# EAGLE library part XTAG-2 (library Strutz Electronic Industries)
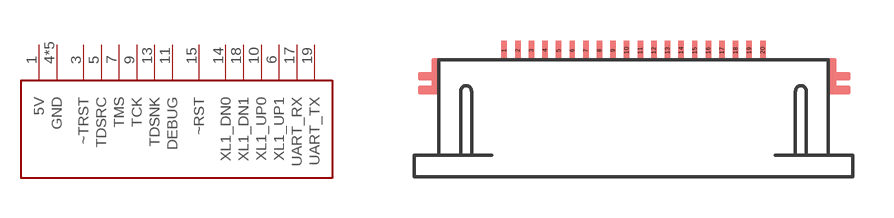
[diagram p23: symbol with the pads of MOLEX-52745-2097; footprint MOLEX-52745-2097]

Designator prefix -

## XTAG-2  [MOLEX-52745-2097]
1  5V
3  ~TRST
4  GND
5  TDSRC
6  XL1_UP1
7  TMS
8  GND
9  TCK
10  XL1_UP0
11  DEBUG
12  GND
13  TDSNK
14  XL1_DN0
15  ~RST
16  GND
17  UART_RX
18  XL1_DN1
19  UART_TX
20  GND

## Footprint MOLEX-52745-2097 (pad centres in mm)
smd 0.2 x 0.7: 1 -4.75,0.85; 2 -4.25,0.85; 3 -3.75,0.85; 4 -3.25,0.85; 5 -2.75,0.85; 6 -2.25,0.85; 7 -1.75,0.85; 8 -1.25,0.85; 9 -0.75,0.85; 10 -0.25,0.85; 11 0.25,0.85; 12 0.75,0.85; 13 1.25,0.85; 14 1.75,0.85; 15 2.25,0.85; 16 2.75,0.85; 17 3.25,0.85; 18 3.75,0.85; 19 4.25,0.85; 20 4.75,0.85